# EAGLE library part LIS3MDL (library CanCubeSat)
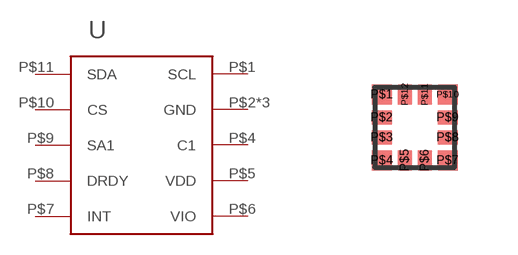
[diagram p13: symbol with the pads of VFLGA-12; footprint VFLGA-12]

Designator prefix -

## LIS3MDL  [VFLGA-12]
P$1  SCL
P$2  GND
P$3  GND
P$4  C1
P$5  VDD
P$6  VIO
P$7  INT
P$8  DRDY
P$9  SA1
P$10  CS
P$11  SDA
P$12  GND

## Footprint VFLGA-12 (pad centres in mm)
smd 0.5 x 0.5: P$1 -0.825,0.825; P$4 -0.825,-0.825; P$7 0.825,-0.825; P$10 0.825,0.825
smd 0.5 x 0.35: P$2 -0.825,0.25; P$3 -0.825,-0.25; P$8 0.825,-0.25; P$9 0.825,0.25
smd 0.35 x 0.5: P$5 -0.25,-0.825; P$6 0.25,-0.825; P$11 0.25,0.825; P$12 -0.25,0.825